# Altium integrated library Altium_Resistor.IntLib: 504 symbols (part 10 of 10)
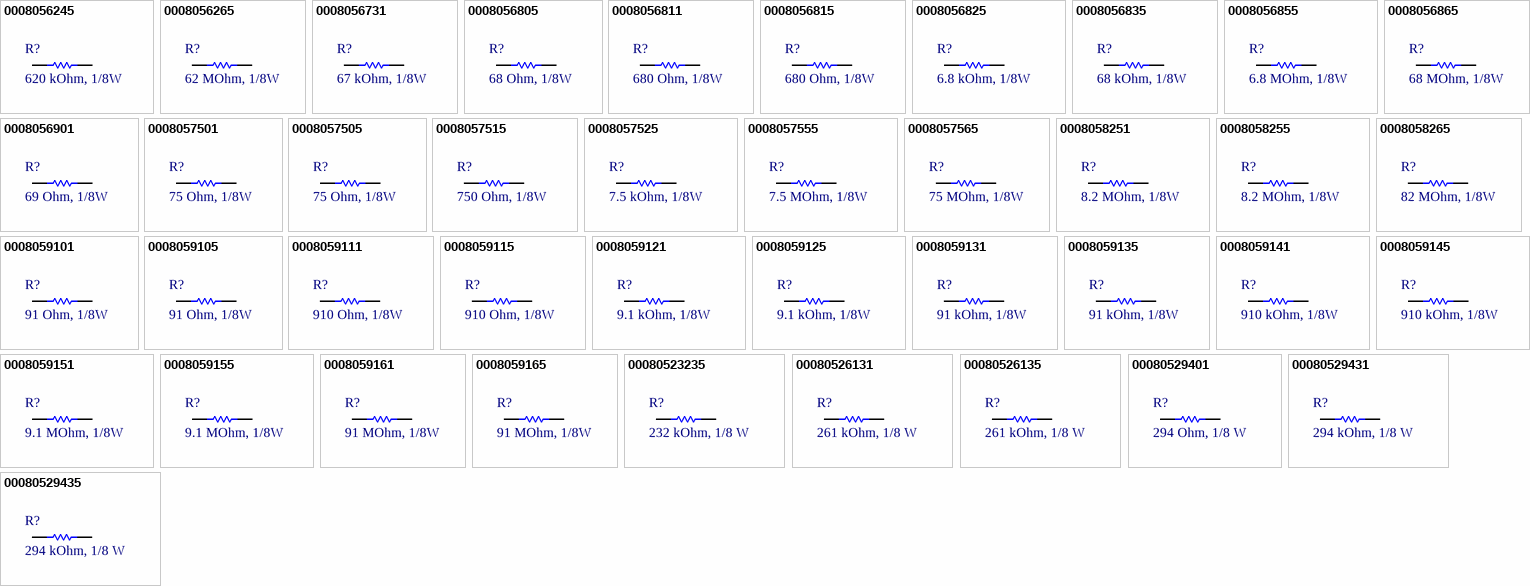
[diagram p24: symbols 0008056245 to 00080529435]

## 0008057555
designator R?, comment 7.5 MOhm, 1/8W
RES, size 0805, 7.5 MOhm, 1/8W, 1%; Tolerance: +/-1%; Resistance: 7.5 MOhm; Rated Power: 1/8 W; Supplier 1 URL: https://www.mouser.vn/ProductDetail/Vishay-Dale/CRCW08057M50JNEA?qs=3kMMNJ4TLu3zaDvEVm8fsw%3D%3D; Supplier 2 URL: https://www.digikey.com/en/products/detail/yageo/RC0805JR-077M5L/728367; Supplier 3 URL: N/A; Value: 7.5 MOhm, 1/8W; Packaging: Tape and Reel; Supplier 1: Mouser; Supplier 1 Part Number: 71-CRCW08057M50JNEA; Supplier 2: Digi-Key; Supplier 2 Part Number: 311-7.5MARTR-ND; Supplier 3: thegioiic; Supplier 3 Part Number: OEM; Manufacturer: N/A; Manufacturer Part Number: N/A; ComponentLink1Description: Datasheet; ComponentLink1URL: N/A; Mount: SMD/SMT; Operating Temperature Max: + 85 C; Operating Temperature Min: - 40 C; Package / Case: 0805; LCSC Part #: N/A
footprint RES_0805 (Chip Resistor, 2-Leads, Body 2.05x1.25mm, IPC Medium Density)
pins: 1, 2

## 0008057565
designator R?, comment 75 MOhm, 1/8W
RES, size 0805, 75 MOhm, 1/8W, 1%; Resistance: 75 MOhm; Tolerance: +/-1%; Rated Power: 1/8 W; Supplier 1 URL: https://www.mouser.vn/ProductDetail/YAGEO/RC0805JR-0775ML?qs=tggtontpCXNahOr45CxKUg%3D%3D; Supplier 2 URL: https://www.digikey.com/en/products/detail/yageo/RC0805JR-0775ML/5919072; Supplier 3 URL: N/A; Value: 75 MOhm, 1/8W; Packaging: Tape and Reel; Supplier 1: Mouser; Supplier 1 Part Number: 603-RC0805JR-0775ML; Supplier 2: Digi-Key; Supplier 2 Part Number: RC0805JR-0775ML-ND; Supplier 3: thegioiic; Supplier 3 Part Number: OEM; Manufacturer: N/A; Manufacturer Part Number: N/A; ComponentLink1Description: Datasheet; ComponentLink1URL: N/A; Mount: SMD/SMT; Operating Temperature Max: + 85 C; Operating Temperature Min: - 40 C; Package / Case: 0805; LCSC Part #: N/A
footprint RES_0805 (Chip Resistor, 2-Leads, Body 2.05x1.25mm, IPC Medium Density)
pins: 1, 2

## 0008058251
designator R?, comment 8.2 MOhm, 1/8W
RES, size 0805, 8.2 MOhm, 1/8W, 1%; Tolerance: +/-1%; Resistance: 8.2 MOhm; Rated Power: 1/8 W; Supplier 1 URL: N/A; Supplier 2 URL: https://www.digikey.com/en/products/detail/yageo/RC0805FR-078M2L/5919049; Supplier 3 URL: N/A; Value: 8.2 MOhm, 1/8W; Packaging: Tape and Reel; Supplier 1: Mouser; Supplier 1 Part Number: N/A; Supplier 2: Digi-Key; Supplier 2 Part Number: 13-RC0805FR-078M2LTR-ND; Supplier 3: thegioiic; Supplier 3 Part Number: OEM; Manufacturer: N/A; Manufacturer Part Number: N/A; ComponentLink1Description: Datasheet; ComponentLink1URL: N/A; Mount: SMD/SMT; Operating Temperature Max: + 85 C; Operating Temperature Min: - 40 C; Package / Case: 0805; LCSC Part #: N/A
footprint RES_0805 (Chip Resistor, 2-Leads, Body 2.05x1.25mm, IPC Medium Density)
pins: 1, 2

## 0008058255
designator R?, comment 8.2 MOhm, 1/8W
RES, size 0805, 8.2 MOhm, 1/8W, 1%; Tolerance: +/-1%; Resistance: 8.2 MOhm; Rated Power: 1/8 W; Supplier 1 URL: https://www.mouser.vn/ProductDetail/Bourns/CR0805-JW-825ELF?qs=3wWX5hyYeeTFo4Cuu04AFA%3D%3D; Supplier 2 URL: https://www.digikey.com/en/products/detail/yageo/RC0805JR-078M2L/728374; Supplier 3 URL: N/A; Value: 8.2 MOhm, 1/8W; Packaging: Tape and Reel; Supplier 1: Mouser; Supplier 1 Part Number: 652-CR0805JW-825ELF; Supplier 2: Digi-Key; Supplier 2 Part Number: 311-8.2MARTR-ND; Supplier 3: thegioiic; Supplier 3 Part Number: OEM; Manufacturer: N/A; Manufacturer Part Number: N/A; ComponentLink1Description: Datasheet; ComponentLink1URL: N/A; Mount: SMD/SMT; Operating Temperature Max: + 85 C; Operating Temperature Min: - 40 C; Package / Case: 0805; LCSC Part #: N/A
footprint RES_0805 (Chip Resistor, 2-Leads, Body 2.05x1.25mm, IPC Medium Density)
pins: 1, 2

## 0008058265
designator R?, comment 82 MOhm, 1/8W
RES, size 0805, 82 MOhm, 1/8W, 1%; Resistance: 82 MOhm; Tolerance: +/-1%; Rated Power: 1/8 W; Supplier 1 URL: https://www.mouser.vn/ProductDetail/YAGEO/RC0805JR-1382ML?qs=k5Usg7mMyeD4ir7b8mjLXg%3D%3D; Supplier 2 URL: https://www.digikey.com/en/products/detail/yageo/RC0805JR-0775RL/728370; Supplier 3 URL: N/A; Value: 82 MOhm, 1/8W; Packaging: Tape and Reel; Supplier 1: Mouser; Supplier 1 Part Number: 603-RC0805JR-1382ML; Supplier 2: Digi-Key; Supplier 2 Part Number: 311-75ARTR-ND; Supplier 3: thegioiic; Supplier 3 Part Number: OEM; Manufacturer: N/A; Manufacturer Part Number: N/A; ComponentLink1Description: Datasheet; ComponentLink1URL: N/A; Mount: SMD/SMT; Operating Temperature Max: + 85 C; Operating Temperature Min: - 40 C; Package / Case: 0805; LCSC Part #: N/A
footprint RES_0805 (Chip Resistor, 2-Leads, Body 2.05x1.25mm, IPC Medium Density)
pins: 1, 2

## 0008059101
designator R?, comment 91 Ohm, 1/8W
RES, size 0805, 91 Ohm, 1/8W, 1%; Resistance: 91 Ohm; Tolerance: +/-1%; Rated Power: 1/8 W; Supplier 1 URL: https://www.mouser.vn/ProductDetail/YAGEO/RC0805FR-0791RL?qs=g6xwsc4j%252B%2Fp%2FT%2FNAjeTsEA%3D%3D; Supplier 2 URL: https://www.digikey.com/en/products/detail/yageo/RC0805FR-0791RL/728201; Supplier 3 URL: N/A; Value: 91 Ohm, 1/8W; Packaging: Tape and Reel; Supplier 1: Mouser; Supplier 1 Part Number: 603-RC0805FR-0791RL; Supplier 2: Digi-Key; Supplier 2 Part Number: 311-91.0CRTR-ND; Supplier 3: thegioiic; Supplier 3 Part Number: OEM; Manufacturer: N/A; Manufacturer Part Number: N/A; ComponentLink1Description: Datasheet; ComponentLink1URL: N/A; Mount: SMD/SMT; Operating Temperature Max: + 85 C; Operating Temperature Min: - 40 C; Package / Case: 0805; LCSC Part #: N/A
footprint RES_0805 (Chip Resistor, 2-Leads, Body 2.05x1.25mm, IPC Medium Density)
pins: 1, 2

## 0008059105
designator R?, comment 91 Ohm, 1/8W
RES, size 0805, 91 Ohm, 1/8W, 1%; Resistance: 91 Ohm; Tolerance: +/-1%; Rated Power: 1/8 W; Supplier 1 URL: https://www.mouser.vn/ProductDetail/YAGEO/RC0805JR-0791RL?qs=fRxXYNj8ftF6WLOxKQFHYw%3D%3D; Supplier 2 URL: https://www.digikey.com/en/products/detail/yageo/RC0805JR-0791RL/728384; Supplier 3 URL: N/A; Value: 91 Ohm, 1/8W; Packaging: Tape and Reel; Supplier 1: Mouser; Supplier 1 Part Number: 603-RC0805JR-0791RL; Supplier 2: Digi-Key; Supplier 2 Part Number: 311-91ARTR-ND; Supplier 3: thegioiic; Supplier 3 Part Number: OEM; Manufacturer: N/A; Manufacturer Part Number: N/A; ComponentLink1Description: Datasheet; ComponentLink1URL: N/A; Mount: SMD/SMT; Operating Temperature Max: + 85 C; Operating Temperature Min: - 40 C; Package / Case: 0805; LCSC Part #: N/A
footprint RES_0805 (Chip Resistor, 2-Leads, Body 2.05x1.25mm, IPC Medium Density)
pins: 1, 2

## 0008059111
designator R?, comment 910 Ohm, 1/8W
RES, size 0805, 910 Ohm, 1/8W, 1%; Resistance: 910 Ohm; Tolerance: +/-1%; Rated Power: 1/8 W; Supplier 1 URL: https://www.mouser.vn/ProductDetail/YAGEO/RC0805FR-07910RL?qs=g6xwsc4j%252B%2FoZ2NamZOKACA%3D%3D; Supplier 2 URL: https://www.digikey.com/en/products/detail/yageo/RC0805FR-07910RL/728203; Supplier 3 URL: N/A; Value: 910 Ohm, 1/8W; Packaging: Tape and Reel; Supplier 1: Mouser; Supplier 1 Part Number: 603-RC0805FR-07910RL; Supplier 2: Digi-Key; Supplier 2 Part Number: 311-910CRTR-ND; Supplier 3: thegioiic; Supplier 3 Part Number: OEM; Manufacturer: N/A; Manufacturer Part Number: N/A; ComponentLink1Description: Datasheet; ComponentLink1URL: N/A; Mount: SMD/SMT; Operating Temperature Max: + 85 C; Operating Temperature Min: - 40 C; Package / Case: 0805; LCSC Part #: N/A
footprint RES_0805 (Chip Resistor, 2-Leads, Body 2.05x1.25mm, IPC Medium Density)
pins: 1, 2

## 0008059115
designator R?, comment 910 Ohm, 1/8W
RES, size 0805, 910 Ohm, 1/8W, 1%; Resistance: 910 Ohm; Tolerance: +/-1%; Rated Power: 1/8 W; Supplier 1 URL: https://www.mouser.vn/ProductDetail/YAGEO/AC0805JR-07910RL?qs=TI15CVqcli02BUmvoruq%252BQ%3D%3D; Supplier 2 URL: https://www.digikey.com/en/products/detail/yageo/RC0805JR-07910RL/728382; Supplier 3 URL: N/A; Value: 910 Ohm, 1/8W; Packaging: Tape and Reel; Supplier 1: Mouser; Supplier 1 Part Number: 603-AC0805JR-07910RL; Supplier 2: Digi-Key; Supplier 2 Part Number: 311-910ARTR-ND; Supplier 3: thegioiic; Supplier 3 Part Number: OEM; Manufacturer: N/A; Manufacturer Part Number: N/A; ComponentLink1Description: Datasheet; ComponentLink1URL: N/A; Mount: SMD/SMT; Operating Temperature Max: + 85 C; Operating Temperature Min: - 40 C; Package / Case: 0805; LCSC Part #: N/A
footprint RES_0805 (Chip Resistor, 2-Leads, Body 2.05x1.25mm, IPC Medium Density)
pins: 1, 2

## 0008059121
designator R?, comment 9.1 kOhm, 1/8W
RES, size 0805, 9.1 kOhm, 1/8W, 1%; Tolerance: +/-1%; Resistance: 9.1 kOhm; Rated Power: 1/8 W; Supplier 1 URL: https://www.mouser.vn/ProductDetail/YAGEO/RC0805FR-079K1L?qs=g6xwsc4j%252B%2Fompd1tn2M1hA%3D%3D; Supplier 2 URL: https://www.digikey.com/en/products/detail/yageo/RC0805FR-079K1L/728187; Supplier 3 URL: N/A; Value: 9.1 kOhm, 1/8W; Packaging: Tape and Reel; Supplier 1: Mouser; Supplier 1 Part Number: 603-RC0805FR-079K1L; Supplier 2: Digi-Key; Supplier 2 Part Number: 311-9.10KCRTR-ND; Supplier 3: thegioiic; Supplier 3 Part Number: OEM; Manufacturer: N/A; Manufacturer Part Number: N/A; ComponentLink1Description: Datasheet; ComponentLink1URL: N/A; Mount: SMD/SMT; Operating Temperature Max: + 85 C; Operating Temperature Min: - 40 C; Package / Case: 0805; LCSC Part #: N/A
footprint RES_0805 (Chip Resistor, 2-Leads, Body 2.05x1.25mm, IPC Medium Density)
pins: 1, 2

## 0008059125
designator R?, comment 9.1 kOhm, 1/8W
RES, size 0805, 9.1 kOhm, 1/8W, 1%; Tolerance: +/-1%; Resistance: 9.1 kOhm; Rated Power: 1/8 W; Supplier 1 URL: https://www.mouser.vn/ProductDetail/YAGEO/AC0805JR-079K1L?qs=TI15CVqcli3%252BCLfrVXRk8g%3D%3D; Supplier 2 URL: https://www.digikey.com/en/products/detail/yageo/RC0805JR-079K1L/728380; Supplier 3 URL: N/A; Value: 9.1 kOhm, 1/8W; Packaging: Tape and Reel; Supplier 1: Mouser; Supplier 1 Part Number: 603-AC0805JR-079K1L; Supplier 2: Digi-Key; Supplier 2 Part Number: 311-9.1KARTR-ND; Supplier 3: thegioiic; Supplier 3 Part Number: OEM; Manufacturer: N/A; Manufacturer Part Number: N/A; ComponentLink1Description: Datasheet; ComponentLink1URL: N/A; Mount: SMD/SMT; Operating Temperature Max: + 85 C; Operating Temperature Min: - 40 C; Package / Case: 0805; LCSC Part #: N/A
footprint RES_0805 (Chip Resistor, 2-Leads, Body 2.05x1.25mm, IPC Medium Density)
pins: 1, 2

## 0008059131
designator R?, comment 91 kOhm, 1/8W
RES, size 0805, 91 kOhm, 1/8W, 1%; Resistance: 91 kOhm; Tolerance: +/-1%; Rated Power: 1/8 W; Supplier 1 URL: https://www.mouser.vn/ProductDetail/YAGEO/RC0805FR-0791KL?qs=cW1D1cnQQSoc5AvjL32TnA%3D%3D; Supplier 2 URL: https://www.digikey.com/en/products/detail/yageo/RC0805FR-0791KL/728202; Supplier 3 URL: N/A; Value: 91 kOhm, 1/8W; Packaging: Tape and Reel; Supplier 1: Mouser; Supplier 1 Part Number: 603-RC0805FR-0791KL; Supplier 2: Digi-Key; Supplier 2 Part Number: 311-91.0KCRTR-ND; Supplier 3: thegioiic; Supplier 3 Part Number: OEM; Manufacturer: N/A; Manufacturer Part Number: N/A; ComponentLink1Description: Datasheet; ComponentLink1URL: N/A; Mount: SMD/SMT; Operating Temperature Max: + 85 C; Operating Temperature Min: - 40 C; Package / Case: 0805; LCSC Part #: N/A
footprint RES_0805 (Chip Resistor, 2-Leads, Body 2.05x1.25mm, IPC Medium Density)
pins: 1, 2

## 0008059135
designator R?, comment 91 kOhm, 1/8W
RES, size 0805, 91 kOhm, 1/8W, 1%; Resistance: 91 kOhm; Tolerance: +/-1%; Rated Power: 1/8 W; Supplier 1 URL: https://www.mouser.vn/ProductDetail/YAGEO/RC0805JR-0791KL?qs=fRxXYNj8ftGTTnZSFO4FNg%3D%3D; Supplier 2 URL: https://www.digikey.com/en/products/detail/yageo/RC0805JR-0791KL/728385; Supplier 3 URL: N/A; Value: 91 kOhm, 1/8W; Packaging: Tape and Reel; Supplier 1: Mouser; Supplier 1 Part Number: 603-RC0805JR-0791KL; Supplier 2: Digi-Key; Supplier 2 Part Number: 311-91KARTR-ND; Supplier 3: thegioiic; Supplier 3 Part Number: OEM; Manufacturer: N/A; Manufacturer Part Number: N/A; ComponentLink1Description: Datasheet; ComponentLink1URL: N/A; Mount: SMD/SMT; Operating Temperature Max: + 85 C; Operating Temperature Min: - 40 C; Package / Case: 0805; LCSC Part #: N/A
footprint RES_0805 (Chip Resistor, 2-Leads, Body 2.05x1.25mm, IPC Medium Density)
pins: 1, 2

## 0008059141
designator R?, comment 910 kOhm, 1/8W
RES, size 0805, 910 kOhm, 1/8W, 1%; Tolerance: +/-1%; Resistance: 910 kOhm; Rated Power: 1/8 W; Supplier 1 URL: https://www.mouser.vn/ProductDetail/YAGEO/AC0805FR-07910KL?qs=yhV1fb9g%2FKZRLhn2XxrNIw%3D%3D; Supplier 2 URL: https://www.digikey.com/en/products/detail/yageo/RC0805FR-07910KL/5281196; Supplier 3 URL: N/A; Value: 910 kOhm, 1/8W; Packaging: Tape and Reel; Supplier 1: Mouser; Supplier 1 Part Number: 603-AC0805FR-07910KL; Supplier 2: Digi-Key; Supplier 2 Part Number: YAG3336TR-ND; Supplier 3: thegioiic; Supplier 3 Part Number: OEM; Manufacturer: N/A; Manufacturer Part Number: N/A; ComponentLink1Description: Datasheet; ComponentLink1URL: N/A; Mount: SMD/SMT; Operating Temperature Max: + 85 C; Operating Temperature Min: - 40 C; Package / Case: 0805; LCSC Part #: N/A
footprint RES_0805 (Chip Resistor, 2-Leads, Body 2.05x1.25mm, IPC Medium Density)
pins: 1, 2

## 0008059145
designator R?, comment 910 kOhm, 1/8W
RES, size 0805, 910 kOhm, 1/8W, 1%; Tolerance: +/-1%; Resistance: 910 kOhm; Rated Power: 1/8 W; Supplier 1 URL: https://www.mouser.vn/ProductDetail/YAGEO/RC0805JR-07910KL?qs=B2whAOG%252BauuorO0T2jryyw%3D%3D; Supplier 2 URL: https://www.digikey.com/en/products/detail/yageo/RC0805JR-07910KL/728383; Supplier 3 URL: N/A; Value: 910 kOhm, 1/8W; Packaging: Tape and Reel; Supplier 1: Mouser; Supplier 1 Part Number: 603-RC0805JR-07910KL; Supplier 2: Digi-Key; Supplier 2 Part Number: 311-910KARTR-ND; Supplier 3: thegioiic; Supplier 3 Part Number: OEM; Manufacturer: N/A; Manufacturer Part Number: N/A; ComponentLink1Description: Datasheet; ComponentLink1URL: N/A; Mount: SMD/SMT; Operating Temperature Max: + 85 C; Operating Temperature Min: - 40 C; Package / Case: 0805; LCSC Part #: N/A
footprint RES_0805 (Chip Resistor, 2-Leads, Body 2.05x1.25mm, IPC Medium Density)
pins: 1, 2

## 0008059151
designator R?, comment 9.1 MOhm, 1/8W
RES, size 0805, 9.1 MOhm, 1/8W, 1%; Tolerance: +/-1%; Resistance: 9.1 MOhm; Rated Power: 1/8 W; Supplier 1 URL: https://www.mouser.vn/ProductDetail/YAGEO/RC0805FR-079M1L?qs=g6xwsc4j%252B%2FrtXMerMKdI0g%3D%3D; Supplier 2 URL: https://www.digikey.com/en/products/detail/rohm-semiconductor/KTR10EZPF9104/1983679; Supplier 3 URL: N/A; Value: 9.1 MOhm, 1/8W; Packaging: Tape and Reel; Supplier 1: Mouser; Supplier 1 Part Number: 603-RC0805FR-079M1L; Supplier 2: Digi-Key; Supplier 2 Part Number: RHM9.10MAHTR-ND; Supplier 3: thegioiic; Supplier 3 Part Number: OEM; Manufacturer: N/A; Manufacturer Part Number: N/A; ComponentLink1Description: Datasheet; ComponentLink1URL: N/A; Mount: SMD/SMT; Operating Temperature Max: + 85 C; Operating Temperature Min: - 40 C; Package / Case: 0805; LCSC Part #: N/A
footprint RES_0805 (Chip Resistor, 2-Leads, Body 2.05x1.25mm, IPC Medium Density)
pins: 1, 2

## 0008059155
designator R?, comment 9.1 MOhm, 1/8W
RES, size 0805, 9.1 MOhm, 1/8W, 1%; Tolerance: +/-1%; Resistance: 9.1 MOhm; Rated Power: 1/8 W; Supplier 1 URL: https://www.mouser.vn/ProductDetail/YAGEO/RC0805JR-079M1L?qs=B2whAOG%252BauuKo2DW2PzpJg%3D%3D; Supplier 2 URL: https://www.digikey.com/en/products/detail/yageo/RC0805JR-079M1L/728381; Supplier 3 URL: N/A; Value: 9.1 MOhm, 1/8W; Packaging: Tape and Reel; Supplier 1: Mouser; Supplier 1 Part Number: 603-RC0805JR-079M1L; Supplier 2: Digi-Key; Supplier 2 Part Number: 311-9.1MARTR-ND; Supplier 3: thegioiic; Supplier 3 Part Number: OEM; Manufacturer: N/A; Manufacturer Part Number: N/A; ComponentLink1Description: Datasheet; ComponentLink1URL: N/A; Mount: SMD/SMT; Operating Temperature Max: + 85 C; Operating Temperature Min: - 40 C; Package / Case: 0805; LCSC Part #: N/A
footprint RES_0805 (Chip Resistor, 2-Leads, Body 2.05x1.25mm, IPC Medium Density)
pins: 1, 2

## 0008059161
designator R?, comment 91 MOhm, 1/8W
RES, size 0805, 91 MOhm, 1/8W, 1%; Resistance: 91 MOhm; Tolerance: +/-1%; Rated Power: 1/8 W; Supplier 1 URL: https://www.mouser.vn/ProductDetail/Royalohm/0805W8F9105T5E?qs=e8oIoAS2J1SVpTnndLrZmw%3D%3D; Supplier 2 URL: N/A; Supplier 3 URL: N/A; Value: 91 MOhm, 1/8W; Packaging: Tape and Reel; Supplier 1: Mouser; Supplier 1 Part Number: 303-0805W8F9105T5E; Supplier 2: Digi-Key; Supplier 2 Part Number: N/A; Supplier 3: thegioiic; Supplier 3 Part Number: OEM; Manufacturer: N/A; Manufacturer Part Number: N/A; ComponentLink1Description: Datasheet; ComponentLink1URL: N/A; Mount: SMD/SMT; Operating Temperature Max: + 85 C; Operating Temperature Min: - 40 C; Package / Case: 0805; LCSC Part #: N/A
footprint RES_0805 (Chip Resistor, 2-Leads, Body 2.05x1.25mm, IPC Medium Density)
pins: 1, 2

## 0008059165
designator R?, comment 91 MOhm, 1/8W
RES, size 0805, 91 MOhm, 1/8W, 1%; Resistance: 91 MOhm; Tolerance: +/-1%; Rated Power: 1/8 W; Supplier 1 URL: https://www.mouser.vn/ProductDetail/YAGEO/RC0805JR-0791ML?qs=tggtontpCXPIeRGuu%252Bjt0g%3D%3D; Supplier 2 URL: https://www.digikey.com/en/products/detail/yageo/RC0805JR-0791ML/5919074; Supplier 3 URL: N/A; Value: 91 MOhm, 1/8W; Packaging: Tape and Reel; Supplier 1: Mouser; Supplier 1 Part Number: 603-RC0805JR-0791ML; Supplier 2: Digi-Key; Supplier 2 Part Number: RC0805JR-0791ML-ND; Supplier 3: thegioiic; Supplier 3 Part Number: OEM; Manufacturer: N/A; Manufacturer Part Number: N/A; ComponentLink1Description: Datasheet; ComponentLink1URL: N/A; Mount: SMD/SMT; Operating Temperature Max: + 85 C; Operating Temperature Min: - 40 C; Package / Case: 0805; LCSC Part #: N/A
footprint RES_0805 (Chip Resistor, 2-Leads, Body 2.05x1.25mm, IPC Medium Density)
pins: 1, 2

## 00080523235
designator R?, comment 232 kOhm, 1/8 W
RES, size 0805, 232 kOhm, 1/8 W, 5%; Manufacturer: Welwyn Components / TT Electronics; Manufacturer Part Number: LHVC0805-232KJT5; Rated Power: 1/8 W; Tolerance: +/-5%; Resistance: 232 kOhm; Supplier 1 URL: https://www.mouser.vn/ProductDetail/Welwyn-Components-TT-Electronics/LHVC0805-232KJT5?qs=GY4PX5ytnAjQQPp7mjLUUQ%3D%3D; Supplier 2 URL: N/A; Supplier 3 URL: N/A; Value: 232 kOhm, 1/8 W; Packaging: Tape and Reel; Supplier 1: Mouser; Supplier 1 Part Number: 756-LHVC0805-232KJT5; Supplier 2: Digi-Key; Supplier 2 Part Number: N/A; Supplier 3: thegioiic; Supplier 3 Part Number: OEM; ComponentLink1Description: Datasheet; ComponentLink1URL: https://www.ttelectronics.com/TTElectronics/media/ProductFiles/Datasheets/LHVC.pdf; Mount: SMD/SMT; Operating Temperature Max: + 85 C; Operating Temperature Min: - 40 C; Package / Case: 0805; LCSC Part #: N/A
footprint RES_0805 (Chip Resistor, 2-Leads, Body 2.05x1.25mm, IPC Medium Density)
pins: 1, 2

## 00080526131
designator R?, comment 261 kOhm, 1/8 W
RES, size 0805, 261 kOhm, 1/8 W, 1%; Manufacturer: Bourns; Manufacturer Part Number: CR0805-FX-2613ELF; Rated Power: 1/8 W; Tolerance: +/-1%; Resistance: 261 kOhm; Supplier 1 URL: https://www.mouser.vn/ProductDetail/Bourns/CR0805-FX-2613ELF?qs=4vGXhLEMbUxDnPXNgaMzmw%3D%3D; Supplier 2 URL: https://www.digikey.com/en/products/detail/bourns-inc/CR0805-FX-2613ELF/3784800; Supplier 3 URL: N/A; Value: 261 kOhm, 1/8 W; Packaging: Tape and Reel; Supplier 1: Mouser; Supplier 1 Part Number: 652-CR0805FX-2613ELF; Supplier 2: Digi-Key; Supplier 2 Part Number: 118-CR0805-FX-2613ELFTR-ND - Tape & Reel (TR); Supplier 3: thegioiic; Supplier 3 Part Number: OEM; ComponentLink1Description: Datasheet; ComponentLink1URL: https://www.mouser.vn/datasheet/2/54/cr-1858361.pdf; Mount: SMD/SMT; Operating Temperature Max: + 85 C; Operating Temperature Min: - 40 C; Package / Case: 0805; LCSC Part #: N/A
footprint RES_0805 (Chip Resistor, 2-Leads, Body 2.05x1.25mm, IPC Medium Density)
pins: 1, 2

## 00080526135
designator R?, comment 261 kOhm, 1/8 W
RES, size 0805, 261 kOhm, 1/8 W, 5%; Manufacturer: Welwyn Components / TT Electronics; Manufacturer Part Number: LHVC0805-261KJT5; Rated Power: 1/8 W; Tolerance: +/-5%; Resistance: 261 kOhm; Supplier 1 URL: https://www.mouser.vn/ProductDetail/Welwyn-Components-TT-Electronics/LHVC0805-261KJT5?qs=GY4PX5ytnAhEaqCyRTPbhQ%3D%3D; Supplier 2 URL: N/A; Supplier 3 URL: N/A; Value: 261 kOhm, 1/8 W; Packaging: Tape and Reel; Supplier 1: Mouser; Supplier 1 Part Number: 756-LHVC0805-261KJT5; Supplier 2: Digi-Key; Supplier 2 Part Number: N/A; Supplier 3: thegioiic; Supplier 3 Part Number: OEM; ComponentLink1Description: Datasheet; ComponentLink1URL: https://www.ttelectronics.com/TTElectronics/media/ProductFiles/Datasheets/LHVC.pdf; Mount: SMD/SMT; Operating Temperature Max: + 85 C; Operating Temperature Min: - 40 C; Package / Case: 0805; LCSC Part #: N/A
footprint RES_0805 (Chip Resistor, 2-Leads, Body 2.05x1.25mm, IPC Medium Density)
pins: 1, 2

## 00080529401
designator R?, comment 294 Ohm, 1/8 W
RES, size 0805, 294 Ohm, 1/8 W, 1%; Manufacturer: Panasonic; Manufacturer Part Number: ERJ-6ENF2940V; Rated Power: 1/8 W; Resistance: 294 Ohm; Tolerance: +/-1%; Supplier 1 URL: https://www.mouser.vn/ProductDetail/Panasonic/ERJ-6ENF2940V?qs=50QC8w71jAvukmJpZ9Lw1g%3D%3D; Supplier 2 URL: https://www.digikey.com/en/products/detail/panasonic-electronic-components/ERJ-6ENF2940V/111179; Supplier 3 URL: N/A; Value: 294 Ohm, 1/8 W; Packaging: Tape and Reel; Supplier 1: Mouser; Supplier 1 Part Number: 667-ERJ-6ENF2940V; Supplier 2: Digi-Key; Supplier 2 Part Number: P294CTR-ND - Tape & Reel (TR); Supplier 3: thegioiic; Supplier 3 Part Number: OEM; ComponentLink1Description: Datasheet; ComponentLink1URL: https://www.mouser.vn/datasheet/2/315/AOA0000C304-1149620.pdf; Mount: SMD/SMT; Operating Temperature Max: + 85 C; Operating Temperature Min: - 40 C; Package / Case: 0805; LCSC Part #: N/A
footprint RES_0805 (Chip Resistor, 2-Leads, Body 2.05x1.25mm, IPC Medium Density)
pins: 1, 2

## 00080529431
designator R?, comment 294 kOhm, 1/8 W
RES, size 0805, 294 kOhm, 1/8 W, 1%; Manufacturer: Bourns; Manufacturer Part Number: CR0805-FX-2943ELF; Rated Power: 1/8 W; Tolerance: +/-1%; Resistance: 294 kOhm; Supplier 1 URL: https://www.mouser.vn/ProductDetail/YAGEO/AC0805FR-07261RL?qs=UBLIud9aIG3KLDcxZj7pBg%3D%3D; Supplier 2 URL: https://www.digikey.com/en/products/detail/bourns-inc/CR0805-FX-2943ELF/3784832; Supplier 3 URL: N/A; Value: 294 kOhm, 1/8 W; Packaging: Tape and Reel; Supplier 1: Mouser; Supplier 1 Part Number: 652-CR0805FX-2943ELF; Supplier 2: Digi-Key; Supplier 2 Part Number: 118-CR0805-FX-2943ELFTR-ND - Tape & Reel (TR); Supplier 3: thegioiic; Supplier 3 Part Number: OEM; ComponentLink1Description: Datasheet; ComponentLink1URL: https://www.mouser.vn/datasheet/2/54/cr-1858361.pdf; Mount: SMD/SMT; Operating Temperature Max: + 85 C; Operating Temperature Min: - 40 C; Package / Case: 0805; LCSC Part #: N/A
footprint RES_0805 (Chip Resistor, 2-Leads, Body 2.05x1.25mm, IPC Medium Density)
pins: 1, 2

## 00080529435
designator R?, comment 294 kOhm, 1/8 W
RES, size 0805, 294 kOhm, 1/8 W, 5%; Manufacturer: Welwyn Components / TT Electronics; Manufacturer Part Number: LHVC0805-294KJT5; Rated Power: 1/8 W; Tolerance: +/-5%; Resistance: 294 kOhm; Supplier 1 URL: https://www.mouser.vn/ProductDetail/Welwyn-Components-TT-Electronics/LHVC0805-294KJT5?qs=GY4PX5ytnAjG5%252BRJuXIg7w%3D%3D; Supplier 2 URL: N/A; Supplier 3 URL: N/A; Value: 294 kOhm, 1/8 W; Packaging: Tape and Reel; Supplier 1: Mouser; Supplier 1 Part Number: 756-LHVC0805-294KJT5; Supplier 2: Digi-Key; Supplier 2 Part Number: N/A; Supplier 3: thegioiic; Supplier 3 Part Number: OEM; ComponentLink1Description: Datasheet; ComponentLink1URL: https://www.ttelectronics.com/TTElectronics/media/ProductFiles/Datasheets/LHVC.pdf; Mount: SMD/SMT; Operating Temperature Max: + 85 C; Operating Temperature Min: - 40 C; Package / Case: 0805; LCSC Part #: N/A
footprint RES_0805 (Chip Resistor, 2-Leads, Body 2.05x1.25mm, IPC Medium Density)
pins: 1, 2

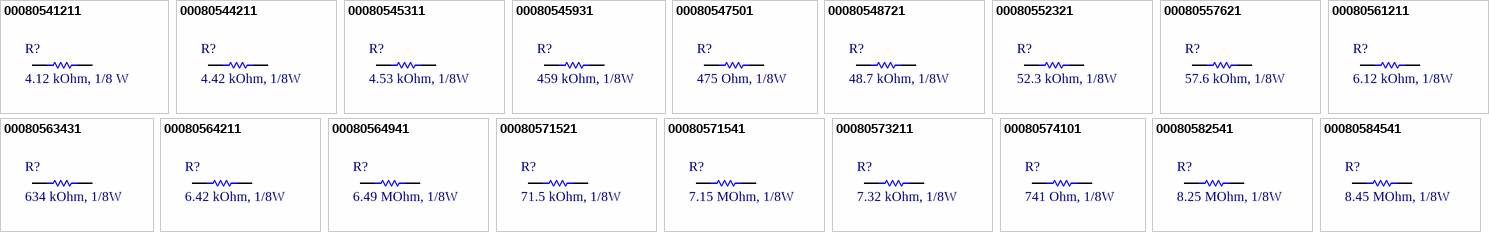
[diagram p13: symbols 00080541211 to 00080584541]

## 00080541211
designator R?, comment 4.12 kOhm, 1/8 W
RES, size 0805, 4.12 kOhm, 1/8 W, 1%; Manufacturer: Panasonic; Manufacturer Part Number: ERJ-U06F4121V; Rated Power: 1/8 W; Tolerance: +/-1%; Resistance: 4.12 kOhm; Supplier 1 URL: https://www.mouser.vn/ProductDetail/Panasonic/ERJ-U06F4121V?qs=Yyy8avaXlIsQpLxN%2Fe1aQA%3D%3D; Supplier 2 URL: https://www.digikey.com/en/products/detail/panasonic-electronic-components/ERJ-6ENF4121V/111401; Supplier 3 URL: N/A; Value: 4.12 kOhm, 1/8 W; Packaging: Tape and Reel; Supplier 1: Mouser; Supplier 1 Part Number: 667-ERJ-U06F4121V; Supplier 2: Digi-Key; Supplier 2 Part Number: P4.12KCTR-ND - Tape & Reel (TR); Supplier 3: thegioiic; Supplier 3 Part Number: OEM; ComponentLink1Description: Datasheet; ComponentLink1URL: https://www.mouser.vn/datasheet/2/315/AOA0000C334-1314047.pdf; Mount: SMD/SMT; Operating Temperature Max: + 85 C; Operating Temperature Min: - 40 C; Package / Case: 0805; LCSC Part #: N/A
footprint RES_0805 (Chip Resistor, 2-Leads, Body 2.05x1.25mm, IPC Medium Density)
pins: 1, 2

## 00080544211
designator R?, comment 4.42 kOhm, 1/8W
RES, size 0805, 4.42 kOhm, 1/8W, 1%; Tolerance: +/-1%; Resistance: 4.42 kOhm; Rated Power: 1/8 W; Supplier 1 URL: https://www.mouser.vn/ProductDetail/Bourns/CR0805-FX-4421ELF?qs=sGAEpiMZZMtG0KNrPCHnjfC2zYK6Lg3%2FrXlYMryvIvo%3D; Supplier 2 URL: https://www.digikey.com/en/products/detail/yageo/RC0805FR-074K42L/727920; Supplier 3 URL: https://www.thegioiic.com/dien-tro-44-2-kohm-0805-1; Value: 4.42 kOhm, 1/8W; Packaging: Tape and Reel; Supplier 1: Mouser; Supplier 1 Part Number: 652-CR0805FX-4421ELF; Supplier 2: Digi-Key; Supplier 2 Part Number: 311-4.42KCRDKR-ND; Supplier 3: thegioiic; Supplier 3 Part Number: OEM; Manufacturer: N/A; Manufacturer Part Number: N/A; ComponentLink1Description: Datasheet; ComponentLink1URL: N/A; Mount: SMD/SMT; Operating Temperature Max: + 85 C; Operating Temperature Min: - 40 C; Package / Case: 0805; LCSC Part #: N/A
footprint RES_0805 (Chip Resistor, 2-Leads, Body 2.05x1.25mm, IPC Medium Density)
pins: 1, 2

## 00080545311
designator R?, comment 4.53 kOhm, 1/8W
RES, size 0805, 4.53 kOhm, 1/8W, 1%; Tolerance: +/-1%; Resistance: 4.53 kOhm; Rated Power: 1/8 W; Supplier 1 URL: https://www.mouser.vn/ProductDetail/Bourns/CR0805-FX-4532ELF?qs=sGAEpiMZZMtG0KNrPCHnjfC2zYK6Lg3%2F1%2Fel6VE8vT0%3D; Supplier 2 URL: https://www.digikey.com/en/products/detail/yageo/RC0805FR-0745K3L/727965; Supplier 3 URL: N/A; Value: 4.53 kOhm, 1/8W; Packaging: Tape and Reel; Supplier 1: Mouser; Supplier 1 Part Number: 652-CR0805FX-4532ELF; Supplier 2: Digi-Key; Supplier 2 Part Number: 311-45.3KCRDKR-ND; Supplier 3: thegioiic; Supplier 3 Part Number: OEM; Manufacturer: N/A; Manufacturer Part Number: N/A; ComponentLink1Description: Datasheet; ComponentLink1URL: N/A; Mount: SMD/SMT; Operating Temperature Max: + 85 C; Operating Temperature Min: - 40 C; Package / Case: 0805; LCSC Part #: N/A
footprint RES_0805 (Chip Resistor, 2-Leads, Body 2.05x1.25mm, IPC Medium Density)
pins: 1, 2

## 00080545931
designator R?, comment 459 kOhm, 1/8W
RES, size 0805, 459 kOhm, 1/8W, 1%; Tolerance: +/-1%; Resistance: 459 kOhm; Rated Power: 1/8 W; Supplier 1 URL: N/A; Supplier 2 URL: https://www.digikey.com/en/products/detail/stackpole-electronics-inc/RMCF0805FT4K30/1760198; Supplier 3 URL: N/A; Value: 459 kOhm, 1/8W; Packaging: Tape and Reel; Supplier 1: Mouser; Supplier 1 Part Number: N/A; Supplier 2: Digi-Key; Supplier 2 Part Number: RMCF0805FT4K30DKR-ND; Supplier 3: thegioiic; Supplier 3 Part Number: OEM; Manufacturer: N/A; Manufacturer Part Number: N/A; ComponentLink1Description: Datasheet; ComponentLink1URL: N/A; Mount: SMD/SMT; Operating Temperature Max: + 85 C; Operating Temperature Min: - 40 C; Package / Case: 0805; LCSC Part #: N/A
footprint RES_0805 (Chip Resistor, 2-Leads, Body 2.05x1.25mm, IPC Medium Density)
pins: 1, 2

## 00080547501
designator R?, comment 475 Ohm, 1/8W
RES, size 0805, 475 Ohm, 1/8W, 1%; Resistance: 475 Ohm; Tolerance: +/-1%; Rated Power: 1/8 W; Supplier 1 URL: https://www.mouser.vn/ProductDetail/KOA-Speer/RK73G2ARTTD4750F?qs=sGAEpiMZZMtG0KNrPCHnjRpfexHZHoPICGbTAoMU%2F0TGfwzA89isyQ%3D%3D; Supplier 2 URL: https://www.digikey.com/en/products/detail/yageo/RC0805FR-07475RL/727978; Supplier 3 URL: N/A; Value: 475 Ohm, 1/8W; Packaging: Tape and Reel; Supplier 1: Mouser; Supplier 1 Part Number: 660-RK73G2ARTTD4750F; Supplier 2: Digi-Key; Supplier 2 Part Number: 311-475CRDKR-ND; Supplier 3: thegioiic; Supplier 3 Part Number: OEM; Manufacturer: N/A; Manufacturer Part Number: N/A; ComponentLink1Description: Datasheet; ComponentLink1URL: N/A; Mount: SMD/SMT; Operating Temperature Max: + 85 C; Operating Temperature Min: - 40 C; Package / Case: 0805; LCSC Part #: N/A
footprint RES_0805 (Chip Resistor, 2-Leads, Body 2.05x1.25mm, IPC Medium Density)
pins: 1, 2

## 00080548721
designator R?, comment 48.7 kOhm, 1/8W
RES, size 0805, 48.7 kOhm, 1/8W, 1%; Tolerance: +/-1%; Resistance: 48.7 kOhm; Rated Power: 1/8 W; Supplier 1 URL: https://www.mouser.vn/ProductDetail/Bourns/CR0805-FX-4872ELF?qs=sGAEpiMZZMtlubZbdhIBIL%252BKkaYz7rs3OXEDnL6C198%3D; Supplier 2 URL: https://www.digikey.com/en/products/detail/panasonic-electronic-components/ERJ-6ENF4872V/111609; Supplier 3 URL: N/A; Value: 48.7 kOhm, 1/8W; Packaging: Tape and Reel; Supplier 1: Mouser; Supplier 1 Part Number: 652-CR0805FX-4872ELF; Supplier 2: Digi-Key; Supplier 2 Part Number: P48.7KCDKR-ND; Supplier 3: thegioiic; Supplier 3 Part Number: OEM; Manufacturer: N/A; Manufacturer Part Number: N/A; ComponentLink1Description: Datasheet; ComponentLink1URL: N/A; Mount: SMD/SMT; Operating Temperature Max: + 85 C; Operating Temperature Min: - 40 C; Package / Case: 0805; LCSC Part #: N/A
footprint RES_0805 (Chip Resistor, 2-Leads, Body 2.05x1.25mm, IPC Medium Density)
pins: 1, 2

## 00080552321
designator R?, comment 52.3 kOhm, 1/8W
RES, size 0805, 52.3 kOhm, 1/8W, 1%; Tolerance: +/-1%; Resistance: 52.3 kOhm; Rated Power: 1/8 W; Supplier 1 URL: https://www.mouser.vn/ProductDetail/Panasonic/ERJ-6ENF5232V?qs=sGAEpiMZZMtlubZbdhIBIGigBIB3A6R9zBn5%252BDYL6RA%3D; Supplier 2 URL: https://www.digikey.com/en/products/detail/yageo/RC0805FR-0752K3L/728021; Supplier 3 URL: N/A; Value: 52.3 kOhm, 1/8W; Packaging: Tape and Reel; Supplier 1: Mouser; Supplier 1 Part Number: 667-ERJ-6ENF5232V; Supplier 2: Digi-Key; Supplier 2 Part Number: 311-52.3KCRDKR-ND; Supplier 3: thegioiic; Supplier 3 Part Number: OEM; Manufacturer: N/A; Manufacturer Part Number: N/A; ComponentLink1Description: Datasheet; ComponentLink1URL: N/A; Mount: SMD/SMT; Operating Temperature Max: + 85 C; Operating Temperature Min: - 40 C; Package / Case: 0805; LCSC Part #: N/A
footprint RES_0805 (Chip Resistor, 2-Leads, Body 2.05x1.25mm, IPC Medium Density)
pins: 1, 2

## 00080557621
designator R?, comment 57.6 kOhm, 1/8W
RES, size 0805, 57.6 kOhm, 1/8W, 1%; Tolerance: +/-1%; Resistance: 57.6 kOhm; Rated Power: 1/8 W; Supplier 1 URL: https://www.mouser.vn/ProductDetail/Panasonic/ERJ-6ENF5762V?qs=sGAEpiMZZMtlubZbdhIBIGigBIB3A6R9NhH0M6W9sy4%3D; Supplier 2 URL: https://www.digikey.com/en/products/detail/yageo/RC0805FR-0757K6L/728041; Supplier 3 URL: N/A; Value: 57.6 kOhm, 1/8W; Packaging: Tape and Reel; Supplier 1: Mouser; Supplier 1 Part Number: 667-ERJ-6ENF5762V; Supplier 2: Digi-Key; Supplier 2 Part Number: 311-57.6KCRDKR-ND; Supplier 3: thegioiic; Supplier 3 Part Number: OEM; Manufacturer: N/A; Manufacturer Part Number: N/A; ComponentLink1Description: Datasheet; ComponentLink1URL: N/A; Mount: SMD/SMT; Operating Temperature Max: + 85 C; Operating Temperature Min: - 40 C; Package / Case: 0805; LCSC Part #: N/A
footprint RES_0805 (Chip Resistor, 2-Leads, Body 2.05x1.25mm, IPC Medium Density)
pins: 1, 2

## 00080561211
designator R?, comment 6.12 kOhm, 1/8W
RES, size 0805, 6.12 kOhm, 1/8W, 1%; Tolerance: +/-1%; Resistance: 6.12 kOhm; Rated Power: 1/8 W; Supplier 1 URL: N/A; Supplier 2 URL: https://www.digikey.com/en/products/detail/koa-speer-electronics-inc/RN73R2ATTD6121F25/10035242; Supplier 3 URL: N/A; Value: 6.12 kOhm, 1/8W; Packaging: Tape and Reel; Supplier 1: Mouser; Supplier 1 Part Number: N/A; Supplier 2: Digi-Key; Supplier 2 Part Number: 2019-RN73R2ATTD6121F25TR-ND; Supplier 3: thegioiic; Supplier 3 Part Number: OEM; Manufacturer: N/A; Manufacturer Part Number: N/A; ComponentLink1Description: Datasheet; ComponentLink1URL: N/A; Mount: SMD/SMT; Operating Temperature Max: + 85 C; Operating Temperature Min: - 40 C; Package / Case: 0805; LCSC Part #: N/A
footprint RES_0805 (Chip Resistor, 2-Leads, Body 2.05x1.25mm, IPC Medium Density)
pins: 1, 2

## 00080563431
designator R?, comment 634 kOhm, 1/8W
RES, size 0805, 634 kOhm, 1/8W, 1%; Tolerance: +/-1%; Resistance: 634 kOhm; Rated Power: 1/8 W; Supplier 1 URL: https://www.mouser.vn/ProductDetail/YAGEO/RT0805FRE07634KL?qs=4CyHz7GXqSgfSiXMWNQNIg%3D%3D; Supplier 2 URL: https://www.digikey.com/en/products/detail/yageo/RC0805FR-07634KL/728088; Supplier 3 URL: N/A; Value: 634 kOhm, 1/8W; Packaging: Tape and Reel; Supplier 1: Mouser; Supplier 1 Part Number: 603-RT0805FRE07634KL; Supplier 2: Digi-Key; Supplier 2 Part Number: 311-634KCRTR-ND; Supplier 3: thegioiic; Supplier 3 Part Number: OEM; Manufacturer: N/A; Manufacturer Part Number: N/A; ComponentLink1Description: Datasheet; ComponentLink1URL: N/A; Mount: SMD/SMT; Operating Temperature Max: + 85 C; Operating Temperature Min: - 40 C; Package / Case: 0805; LCSC Part #: N/A
footprint RES_0805 (Chip Resistor, 2-Leads, Body 2.05x1.25mm, IPC Medium Density)
pins: 1, 2

## 00080564211
designator R?, comment 6.42 kOhm, 1/8W
RES, size 0805, 6.42 kOhm, 1/8W, 1%; Tolerance: +/-1%; Resistance: 6.42 kOhm; Rated Power: 1/8 W; Supplier 1 URL: N/A; Supplier 2 URL: https://www.digikey.com/en/products/detail/koa-speer-electronics-inc/RN73R2ATTD6421F100/10035641; Supplier 3 URL: N/A; Value: 6.42 kOhm, 1/8W; Packaging: Tape and Reel; Supplier 1: Mouser; Supplier 1 Part Number: N/A; Supplier 2: Digi-Key; Supplier 2 Part Number: 2019-RN73R2ATTD6421F100TR-ND; Supplier 3: thegioiic; Supplier 3 Part Number: OEM; Manufacturer: N/A; Manufacturer Part Number: N/A; ComponentLink1Description: Datasheet; ComponentLink1URL: N/A; Mount: SMD/SMT; Operating Temperature Max: + 85 C; Operating Temperature Min: - 40 C; Package / Case: 0805; LCSC Part #: N/A
footprint RES_0805 (Chip Resistor, 2-Leads, Body 2.05x1.25mm, IPC Medium Density)
pins: 1, 2

## 00080564941
designator R?, comment 6.49 MOhm, 1/8W
RES, size 0805, 6.49 MOhm, 1/8W, 1%; Tolerance: +/-1%; Resistance: 6.49 MOhm; Rated Power: 1/8 W; Supplier 1 URL: N/A; Supplier 2 URL: https://www.digikey.com/en/products/detail/yageo/RC0805FR-076M49L/731008; Supplier 3 URL: N/A; Value: 6.49 MOhm, 1/8W; Packaging: Tape and Reel; Supplier 1: Mouser; Supplier 1 Part Number: N/A; Supplier 2: Digi-Key; Supplier 2 Part Number: 311-6.49MCRTR-ND; Supplier 3: thegioiic; Supplier 3 Part Number: OEM; Manufacturer: N/A; Manufacturer Part Number: N/A; ComponentLink1Description: Datasheet; ComponentLink1URL: N/A; Mount: SMD/SMT; Operating Temperature Max: + 85 C; Operating Temperature Min: - 40 C; Package / Case: 0805; LCSC Part #: N/A
footprint RES_0805 (Chip Resistor, 2-Leads, Body 2.05x1.25mm, IPC Medium Density)
pins: 1, 2

## 00080571521
designator R?, comment 71.5 kOhm, 1/8W
RES, size 0805, 71.5 kOhm, 1/8W, 1%; Tolerance: +/-1%; Resistance: 71.5 kOhm; Rated Power: 1/8 W; Supplier 1 URL: https://www.mouser.vn/ProductDetail/YAGEO/RT0805FRE0771K5L?qs=yNCrj0CQcyJ2X5%252BJTRHZxw%3D%3D; Supplier 2 URL: https://www.digikey.com/en/products/detail/yageo/RC0805FR-0771K5L/728125; Supplier 3 URL: N/A; Value: 71.5 kOhm, 1/8W; Packaging: Tape and Reel; Supplier 1: Mouser; Supplier 1 Part Number: 603-RT0805FRE0771K5L; Supplier 2: Digi-Key; Supplier 2 Part Number: 311-71.5KCRTR-ND; Supplier 3: thegioiic; Supplier 3 Part Number: OEM; Manufacturer: N/A; Manufacturer Part Number: N/A; ComponentLink1Description: Datasheet; ComponentLink1URL: N/A; Mount: SMD/SMT; Operating Temperature Max: + 85 C; Operating Temperature Min: - 40 C; Package / Case: 0805; LCSC Part #: N/A
footprint RES_0805 (Chip Resistor, 2-Leads, Body 2.05x1.25mm, IPC Medium Density)
pins: 1, 2

## 00080571541
designator R?, comment 7.15 MOhm, 1/8W
RES, size 0805, 7.15 MOhm, 1/8W, 1%; Tolerance: +/-1%; Resistance: 7.15 MOhm; Rated Power: 1/8 W; Supplier 1 URL: N/A; Supplier 2 URL: https://www.digikey.com/en/products/detail/yageo/RC0805FR-077M15L/728111; Supplier 3 URL: N/A; Value: 7.15 MOhm, 1/8W; Packaging: Tape and Reel; Supplier 1: Mouser; Supplier 1 Part Number: N/A; Supplier 2: Digi-Key; Supplier 2 Part Number: 311-7.15MCRTR-ND; Supplier 3: thegioiic; Supplier 3 Part Number: OEM; Manufacturer: N/A; Manufacturer Part Number: N/A; ComponentLink1Description: Datasheet; ComponentLink1URL: N/A; Mount: SMD/SMT; Operating Temperature Max: + 85 C; Operating Temperature Min: - 40 C; Package / Case: 0805; LCSC Part #: N/A
footprint RES_0805 (Chip Resistor, 2-Leads, Body 2.05x1.25mm, IPC Medium Density)
pins: 1, 2

## 00080573211
designator R?, comment 7.32 kOhm, 1/8W
RES, size 0805, 7.32 kOhm, 1/8W, 1%; Tolerance: +/-1%; Resistance: 7.32 kOhm; Rated Power: 1/8 W; Supplier 1 URL: https://www.mouser.vn/ProductDetail/YAGEO/RT0805FRE077K32L?qs=yNCrj0CQcyL5VeJfozhHUw%3D%3D; Supplier 2 URL: https://www.digikey.com/en/products/detail/yageo/RC0805FR-077K32L/728113; Supplier 3 URL: N/A; Value: 7.32 kOhm, 1/8W; Packaging: Tape and Reel; Supplier 1: Mouser; Supplier 1 Part Number: 603-RT0805FRE077K32L; Supplier 2: Digi-Key; Supplier 2 Part Number: 311-7.32KCRTR-ND; Supplier 3: thegioiic; Supplier 3 Part Number: OEM; Manufacturer: N/A; Manufacturer Part Number: N/A; ComponentLink1Description: Datasheet; ComponentLink1URL: N/A; Mount: SMD/SMT; Operating Temperature Max: + 85 C; Operating Temperature Min: - 40 C; Package / Case: 0805; LCSC Part #: N/A
footprint RES_0805 (Chip Resistor, 2-Leads, Body 2.05x1.25mm, IPC Medium Density)
pins: 1, 2

## 00080574101
designator R?, comment 741 Ohm, 1/8W
RES, size 0805, 741 Ohm, 1/8W, 1%; Resistance: 741 Ohm; Tolerance: +/-1%; Rated Power: 1/8 W; Supplier 1 URL: N/A; Supplier 2 URL: https://www.digikey.com/en/products/detail/koa-speer-electronics-inc/RN73R2ATTD7410F100/10036662; Supplier 3 URL: N/A; Value: 741 Ohm, 1/8W; Packaging: Tape and Reel; Supplier 1: Mouser; Supplier 1 Part Number: N/A; Supplier 2: Digi-Key; Supplier 2 Part Number: 2019-RN73R2ATTD7410F100TR-ND; Supplier 3: thegioiic; Supplier 3 Part Number: OEM; Manufacturer: N/A; Manufacturer Part Number: N/A; ComponentLink1Description: Datasheet; ComponentLink1URL: N/A; Mount: SMD/SMT; Operating Temperature Max: + 85 C; Operating Temperature Min: - 40 C; Package / Case: 0805; LCSC Part #: N/A
footprint RES_0805 (Chip Resistor, 2-Leads, Body 2.05x1.25mm, IPC Medium Density)
pins: 1, 2

## 00080582541
designator R?, comment 8.25 MOhm, 1/8W
RES, size 0805, 8.25 MOhm, 1/8W, 1%; Tolerance: +/-1%; Resistance: 8.25 MOhm; Rated Power: 1/8 W; Supplier 1 URL: N/A; Supplier 2 URL: https://www.digikey.com/en/products/detail/yageo/RC0805FR-078M25L/728150; Supplier 3 URL: N/A; Value: 8.25 MOhm, 1/8W; Packaging: Tape and Reel; Supplier 1: Mouser; Supplier 1 Part Number: N/A; Supplier 2: Digi-Key; Supplier 2 Part Number: 311-8.25MCRTR-ND; Supplier 3: thegioiic; Supplier 3 Part Number: OEM; Manufacturer: N/A; Manufacturer Part Number: N/A; ComponentLink1Description: Datasheet; ComponentLink1URL: N/A; Mount: SMD/SMT; Operating Temperature Max: + 85 C; Operating Temperature Min: - 40 C; Package / Case: 0805; LCSC Part #: N/A
footprint RES_0805 (Chip Resistor, 2-Leads, Body 2.05x1.25mm, IPC Medium Density)
pins: 1, 2

## 00080584541
designator R?, comment 8.45 MOhm, 1/8W
RES, size 0805, 8.45 MOhm, 1/8W, 1%; Tolerance: +/-1%; Resistance: 8.45 MOhm; Rated Power: 1/8 W; Supplier 1 URL: N/A; Supplier 2 URL: https://www.digikey.com/en/products/detail/yageo/RC0805FR-078M45L/728153; Supplier 3 URL: N/A; Value: 8.45 MOhm, 1/8W; Packaging: Tape and Reel; Supplier 1: Mouser; Supplier 1 Part Number: N/A; Supplier 2: Digi-Key; Supplier 2 Part Number: 311-8.45MCRTR-ND; Supplier 3: thegioiic; Supplier 3 Part Number: OEM; Manufacturer: N/A; Manufacturer Part Number: N/A; ComponentLink1Description: Datasheet; ComponentLink1URL: N/A; Mount: SMD/SMT; Operating Temperature Max: + 85 C; Operating Temperature Min: - 40 C; Package / Case: 0805; LCSC Part #: N/A
footprint RES_0805 (Chip Resistor, 2-Leads, Body 2.05x1.25mm, IPC Medium Density)
pins: 1, 2


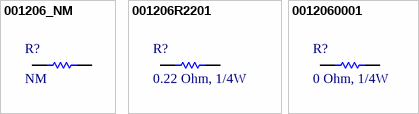
[diagram p14: symbols 001206_NM to 0012060001]

## 001206_NM
designator R?, comment NM
RES, size 1206, NM; Packaging: Tape and Reel; Supplier 1: Mouser; Supplier 1 Part Number: N/A; Supplier 1 URL: N/A; Supplier 2: Digi-Key; Supplier 2 Part Number: N/A; Supplier 2 URL: N/A; Supplier 3: thegioiic; Supplier 3 Part Number: N/A; Supplier 3 URL: N/A; Tolerance: N/A; Value: NM; Manufacturer: N/A; Manufacturer Part Number: N/A; ComponentLink1Description: Datasheet; ComponentLink1URL: N/A; Mount: SMD/SMT; Operating Temperature Max: + 85 C; Operating Temperature Min: - 40 C; Package / Case: 1206; LCSC Part #: N/A
footprint RES_1206 (Footprint not found)
pins: 1, 2

## 001206R2201
designator R?, comment 0.22 Ohm, 1/4W
RES, size 1206, 0.22 Ohm, 1/4W; Manufacturer: YAGEO; Manufacturer Part Number: RL1206FR-070R22L; Tolerance: +/-1%; Packaging: Tape and Reel; Supplier 1: Mouser; Supplier 1 Part Number: 603-RL1206FR070R22L; Supplier 1 URL: https://www.mouser.com/ProductDetail/YAGEO/RL1206FR-070R22L?qs=H6bTqIa4pvU6CLk85z%252BSHA%3D%3D; Supplier 2: Digi-Key; Supplier 2 Part Number: N/A; Supplier 2 URL: N/A; Supplier 3: thegioiic; Supplier 3 Part Number: N/A; Supplier 3 URL: N/A; Value: 0.22 Ohm, 1/4W; ComponentLink1Description: Datasheet; ComponentLink1URL: https://www.mouser.com/datasheet/2/447/PYu_RL_Group_521_RoHS_L_2-3002987.pdf; Mount: SMD/SMT; Operating Temperature Max: + 85 C; Operating Temperature Min: - 40 C; Package / Case: 1206; LCSC Part #: C155692
footprint RES_1206 (Footprint not found)
pins: 1, 2

## 0012060001
designator R?, comment 0 Ohm, 1/4W
RES, size 1206, 0 Ohm, 1/4W; Tolerance: +/-1%; Packaging: Tape and Reel; Supplier 1: Mouser; Supplier 1 Part Number: N/A; Supplier 1 URL: N/A; Supplier 2: Digi-Key; Supplier 2 Part Number: N/A; Supplier 2 URL: N/A; Supplier 3: thegioiic; Supplier 3 Part Number: N/A; Supplier 3 URL: N/A; Value: 0 Ohm, 1/4W; Manufacturer: N/A; Manufacturer Part Number: N/A; ComponentLink1Description: Datasheet; ComponentLink1URL: N/A; Mount: SMD/SMT; Operating Temperature Max: + 85 C; Operating Temperature Min: - 40 C; Package / Case: 1206; LCSC Part #: N/A
footprint RES_1206 (Footprint not found)
pins: 1, 2


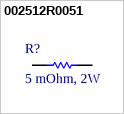
[diagram p15: symbol 002512R0051]

## 002512R0051
designator R?, comment 5 mOhm, 2W
RES, size 2512, 5 mOhm, 2W; Manufacturer: YAGEO; Manufacturer Part Number: PA2512FKF7W0R005E; Tolerance: +/-1%; Packaging: Tape and Reel; Supplier 1: Mouser; Supplier 1 Part Number: 603-PA2512FKF7W0R005; Supplier 1 URL: https://www.mouser.com/ProductDetail/YAGEO/PA2512FKF7W0R005E?qs=kUzwwg2uGjVVrHetxt8Trw%3D%3D; Supplier 2: Digi-Key; Supplier 2 Part Number: YAG2145TR-ND; Supplier 2 URL: https://www.digikey.com/en/products/detail/yageo/pa2512fkf7w0r005e/5138664; Supplier 3: thegioiic; Supplier 3 Part Number: N/A; Supplier 3 URL: N/A; Value: 5 mOhm, 2W; ComponentLink1Description: Datasheet; ComponentLink1URL: https://www.mouser.com/datasheet/2/447/PYu_PA0100_2512_51_RoHS_2-2604383.pdf; Mount: SMD/SMT; Operating Temperature Max: + 85 C; Operating Temperature Min: - 40 C; Package / Case: 2512; LCSC Part #: C309526
footprint RES_2512 (Chip Resistor, 2-Leads, Body 6.35x3.18mm, IPC Medium Density)
pins: 1, 2